# Altium schematic symbol library XT.SchLib: 2 symbols
Pins are listed as number, name and electrical type; pins without a type are passive.

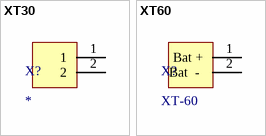
[diagram p0: symbols XT30 to XT60]

## XT30
designator X?
footprint XT30
pins: 1, 2

## XT60
designator X?, comment XT-60
footprint XT-60
pins: 1 Bat + (power), 2 Bat  -  (power)